# Altium footprint library ESP32C3MINI1H4X.PcbLib: 1 footprints
Each footprint in its own frame and in the unit in brackets; x right, y up, seen from the top. Pads: shape width x height; smd on the part's side, far side on the other; paste and mask are expansions set on the pad; w line width, h text height; cw(c..) or ccw(c..) is an arc to the next point about the centre after c.
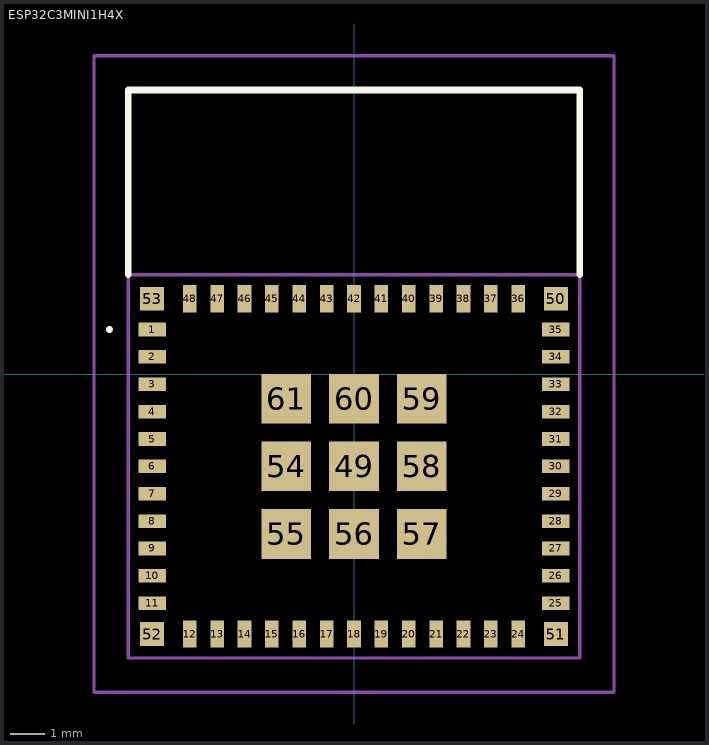
[diagram p0: the footprint, top view; thin cyan lines are the x and y axes]

## ESP32C3MINI1H4X [mm]
pads (61):
  rect 0.8x0.4 smd: 1(-5.9,1.3) 2(-5.9,0.5) 3(-5.9,-0.3) 4(-5.9,-1.1) 5(-5.9,-1.9) 6(-5.9,-2.7) 7(-5.9,-3.5) 8(-5.9,-4.3) 9(-5.9,-5.1) 10(-5.9,-5.9) 11(-5.9,-6.7) 25(5.9,-6.7) 26(5.9,-5.9) 27(5.9,-5.1) 28(5.9,-4.3) 29(5.9,-3.5) 30(5.9,-2.7) 31(5.9,-1.9) 32(5.9,-1.1) 33(5.9,-0.3) 34(5.9,0.5) 35(5.9,1.3)
  rect 0.4x0.8 smd: 12(-4.8,-7.6) 13(-4,-7.6) 14(-3.2,-7.6) 15(-2.4,-7.6) 16(-1.6,-7.6) 17(-0.8,-7.6) 18(0,-7.6) 19(0.8,-7.6) 20(1.6,-7.6) 21(2.4,-7.6) 22(3.2,-7.6) 23(4,-7.6) 24(4.8,-7.6) 36(4.8,2.2) 37(4,2.2) 38(3.2,2.2) 39(2.4,2.2) 40(1.6,2.2) 41(0.8,2.2) 42(0,2.2) 43(-0.8,2.2) 44(-1.6,2.2) 45(-2.4,2.2) 46(-3.2,2.2) 47(-4,2.2) 48(-4.8,2.2)
  rect 1.45x1.45 smd: 49(0,-2.7) 54(-1.975,-2.7) 55(-1.975,-4.675) 56(0,-4.675) 57(1.975,-4.675) 58(1.975,-2.7) 59(1.975,-0.725) 60(0,-0.725) 61(-1.975,-0.725)
  rect 0.7x0.7 smd: 50(5.9,2.2) 51(5.9,-7.6) 52(-5.9,-7.6) 53(-5.9,2.2)
Top Overlay:
  lines w0.1: -7.2,1.3 -7.2,1.3 ; -7.2,1.3 ccw(c-7.15,1.3) -7.1,1.3 ; -7.2,1.3 cw(c-7.15,1.3) -7.1,1.3 ; -7.1,1.3 -7.1,1.3
  lines w0.2: -6.6,2.9 -6.6,8.3 6.6,8.3 6.6,2.9
Mechanical 15:
  lines w0.1: -6.6,2.9 6.6,2.9 ; -6.6,2.9 -6.6,-8.3 6.6,-8.3 6.6,2.9 ; -6.6,2.9 -6.6,8.3 6.6,8.3 6.6,2.9
Mechanical 20:
  lines w0.1: -7.6,-9.3 7.6,-9.3 7.6,9.3 -7.6,9.3 -7.6,-9.3